# EAGLE library part S10B-PH (library con-JST PH)
JST PH series header 2.00mm pitch disconnectable crimp style connectors, horizontal (side entry type), 10 pins
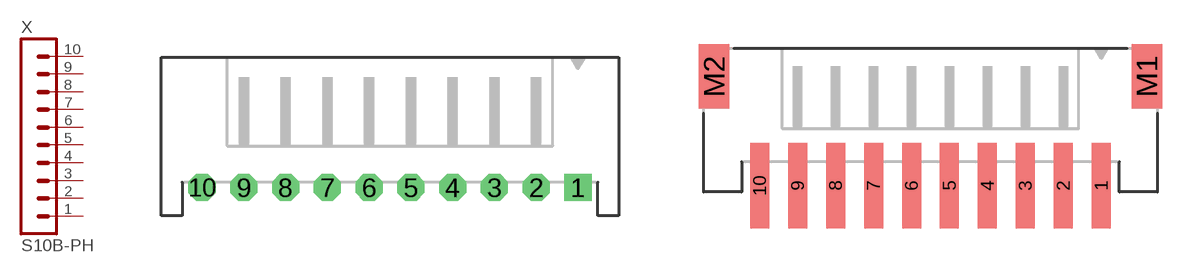
[diagram p15: symbol with the pads of S10B-PH-K-S; footprints S10B-PH-K-S, S10B-PH-SM4-TB]

Designator prefix X

## S10B-PH-K-S  [S10B-PH-K-S]
1  1  pas
2  2  pas
3  3  pas
4  4  pas
5  5  pas
6  6  pas
7  7  pas
8  8  pas
9  9  pas
10  10  pas

## S10B-PH-KL  [S10B-PH-K-S]
Pads as for S10B-PH-K-S

## S10B-PH-SM4-TB  [S10B-PH-SM4-TB]
Pads as for S10B-PH-K-S

## Footprint S10B-PH-K-S (pad centres in mm)
JST PH series header 2.00mm pitch disconnectable crimp style connectors, through-hole horizontal (side entry type), 10 pins
drill 0.7 pad 1.3 square: 1 9,0
drill 0.7 pad 1.3 octagon: 2 7,0; 3 5,0; 4 3,0; 5 1,0; 6 -1,0; 7 -3,0; 8 -5,0; 9 -7,0; 10 -9,0

## Footprint S10B-PH-SM4-TB (pad centres in mm)
JST PH series header 2.00mm pitch disconnectable crimp style connectors, SMT horizontal (side entry type), 10 pins
smd 1 x 4.5: 1 9,0; 2 7,0; 3 5,0; 4 3,0; 5 1,0; 6 -1,0; 7 -3,0; 8 -5,0; 9 -7,0; 10 -9,0
smd 1.6 x 3.4: M1 11.4,5.75; M2 -11.4,5.75